# EAGLE library part 61303421121 (library Wuerth_Elektronik_eiCan_Pin_&_Socked_Headers_v1.3)
WR-PHD 2.54mm Dual Pin Header, 34 Pins
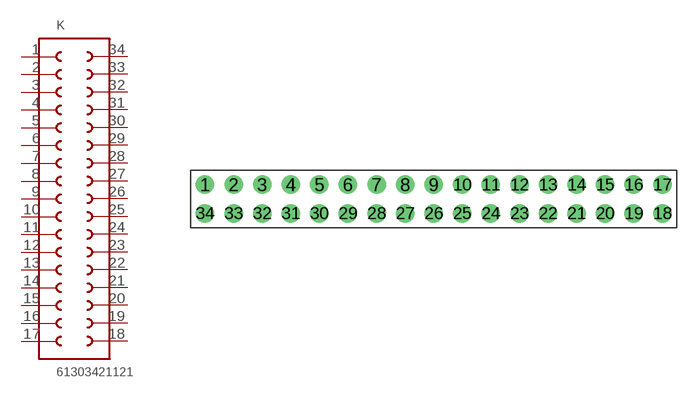
[diagram p32: symbol with the pads of 61303421121; footprint 61303421121]

Designator prefix K

## 61303421121  [61303421121]
1  1  pas
2  2  pas
3  3  pas
4  4  pas
5  5  pas
6  6  pas
7  7  pas
8  8  pas
9  9  pas
10  10  pas
11  11  pas
12  12  pas
13  13  pas
14  14  pas
15  15  pas
16  16  pas
17  17  pas
18  18  pas
19  19  pas
20  20  pas
21  21  pas
22  22  pas
23  23  pas
24  24  pas
25  25  pas
26  26  pas
27  27  pas
28  28  pas
29  29  pas
30  30  pas
31  31  pas
32  32  pas
33  33  pas
34  34  pas

## Footprint 61303421121 (pad centres in mm)
WR-PHD 2.54mm Dual Pin Header, 34 Pins
drill 1.1 round: 1 -20.32,1.27; 2 -17.78,1.27; 3 -15.24,1.27; 4 -12.7,1.27; 5 -10.16,1.27; 6 -7.62,1.27; 7 -5.08,1.27; 8 -2.54,1.27; 9 0,1.27; 10 2.54,1.27; 11 5.08,1.27; 12 7.62,1.27; 13 10.16,1.27; 14 12.7,1.27; 15 15.24,1.27; 16 17.78,1.27; 17 20.32,1.27; 18 20.32,-1.27; 19 17.78,-1.27; 20 15.24,-1.27; 21 12.7,-1.27; 22 10.16,-1.27; 23 7.62,-1.27; 24 5.08,-1.27; 25 2.54,-1.27; 26 0,-1.27; 27 -2.54,-1.27; 28 -5.08,-1.27; 29 -7.62,-1.27; 30 -10.16,-1.27; 31 -12.7,-1.27; 32 -15.24,-1.27; 33 -17.78,-1.27; 34 -20.32,-1.27